# EAGLE library part PCA9545(SOIC20) (library AccelTestJig)
I2C 4-channel switch
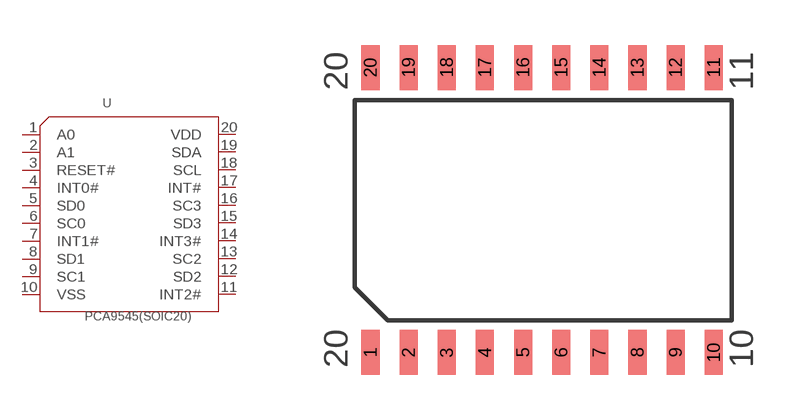
[diagram p1: symbol with the pads of SOIC20; footprint SOIC20]

Designator prefix U

## PCA9545(SOIC20)  [SOIC20]
1  A0
2  A1
3  RESET#
4  INT0#
5  SD0
6  SC0
7  INT1#
8  SD1
9  SC1
10  VSS
11  INT2#
12  SD2
13  SC2
14  INT3#
15  SD3
16  SC3
17  INT#
18  SCL
19  SDA
20  VDD

## Footprint SOIC20 (pad centres in mm)
Small Outline Package
smd 0.6 x 1.5: 1 0,0; 2 1.27,0; 3 2.54,0; 4 3.81,0; 5 5.08,0; 6 6.35,0; 7 7.62,0; 8 8.89,0; 9 10.16,0; 10 11.43,0; 11 11.43,9.5; 12 10.16,9.5; 13 8.89,9.5; 14 7.62,9.5; 15 6.35,9.5; 16 5.08,9.5; 17 3.81,9.5; 18 2.54,9.5; 19 1.27,9.5; 20 0,9.5